# Altium schematic symbol library CON ISO 4.Schlib: 1 symbol
Pins are listed as number, name and electrical type; pins without a type are passive.

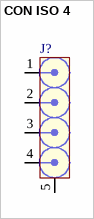
[diagram p0: symbol CON ISO 4]

## CON ISO 4
designator J?
pins: 1, 2, 3, 4, 5 SHLD